# Altium schematic symbol library SLW-883935-2A-D.SchLib: 2 symbols
Pins are listed as number, name and electrical type; pins without a type are passive.

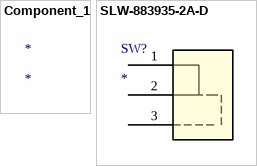
[diagram p0: symbols Component_1 to SLW-883935-2A-D]

## Component_1
designator *

## SLW-883935-2A-D
designator SW?
No Description Available; Mfr_Name: Same Sky; Type: Slide Switches; RefDes: RefDes
footprint SLW-883935_CUD
pins: 1, 2, 3